# EAGLE library part WE-LAN_749013011A (library WE-LAN)
WE-LAN LAN Transformer Characteristics Power over Ethernet up to 150 Watts and speeds up to 1 Gbit/s Available in SMD Compliant with standards: IEEE 802.3u, IEEE 802.3ab, IEEE 802.3af, IEEE 802.3at and upcoming IEEE 802.3bt Applications Suitable for industrial temperatures from –40 °C up to +125 °C Compatible to Industrial Ethernet systems like EtherCAT or Profinet Compliant with most IC’s for Ethernet applications such as Microchip, Texas Instruments, Broadcom, Linear Technology Hubs, Routers, Switches, IP cameras, IoT applications <https://www.we-online.com/components/media/o14800v209%20WE-LAN%20-%20Kopie.jpg> Details see: www.we-online.com/en/components/products/WE-LAN <www.we-online.com/catalog/WE-LAN/?utm_source=eagle_model&utm_medium=description_link&utm_campaign=eisos_eagle> Updated by Ella Wu 2024-03-21 2024 (C) Würth Elektronik
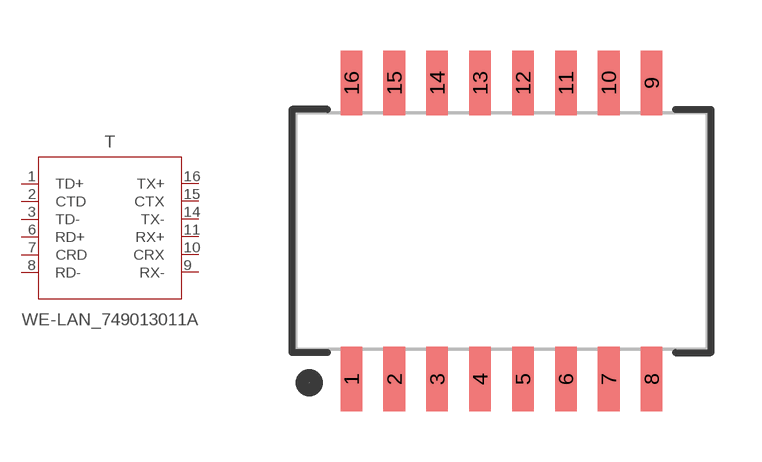
[diagram p45: symbol with the pads of WE-LAN_749013011A; footprint WE-LAN_749013011A]

Designator prefix T

## WE-LAN_749013011A (DATA-RATE: 10/100 Base-T; DATASHEET-URL: https://www.we-online.com/catalog/datasheet/749013011A.pdf; HPLE: No; L: 350uH; MOUNT: SMT; PART-NUMBER: 749013011A; POE: PoE (up to 350 mA); PORTS: 1; VALUE: 749013011A; VT: 1500 V (RMS))  [WE-LAN_749013011A]
1  TD+  pas
2  CTD  pas
3  TD-  pas
6  RD+  pas
7  CRD  pas
8  RD-  pas
9  RX-  pas
10  CRX  pas
11  RX+  pas
14  TX-  pas
15  CTX  pas
16  TX+  pas

## Footprint WE-LAN_749013011A (pad centres in mm)
WE-LAN LAN Transformer 10/100 Base-T
smd 0.64 x 1.91: 1 -4.445,-4.385; 2 -3.175,-4.385; 3 -1.905,-4.385; 4 -0.635,-4.385; 5 0.635,-4.385; 6 1.905,-4.385; 7 3.175,-4.385; 8 4.445,-4.385; 9 4.445,4.385; 10 3.175,4.385; 11 1.905,4.385; 12 0.635,4.385; 13 -0.635,4.385; 14 -1.905,4.385; 15 -3.175,4.385; 16 -4.445,4.385